# Altium footprint library CrystalOscillator.PcbLib: 9 footprints
Each footprint in its own frame and in the unit in brackets; x right, y up, seen from the top. Pads: shape width x height; smd on the part's side, far side on the other; paste and mask are expansions set on the pad; w line width, h text height; cw(c..) or ccw(c..) is an arc to the next point about the centre after c.
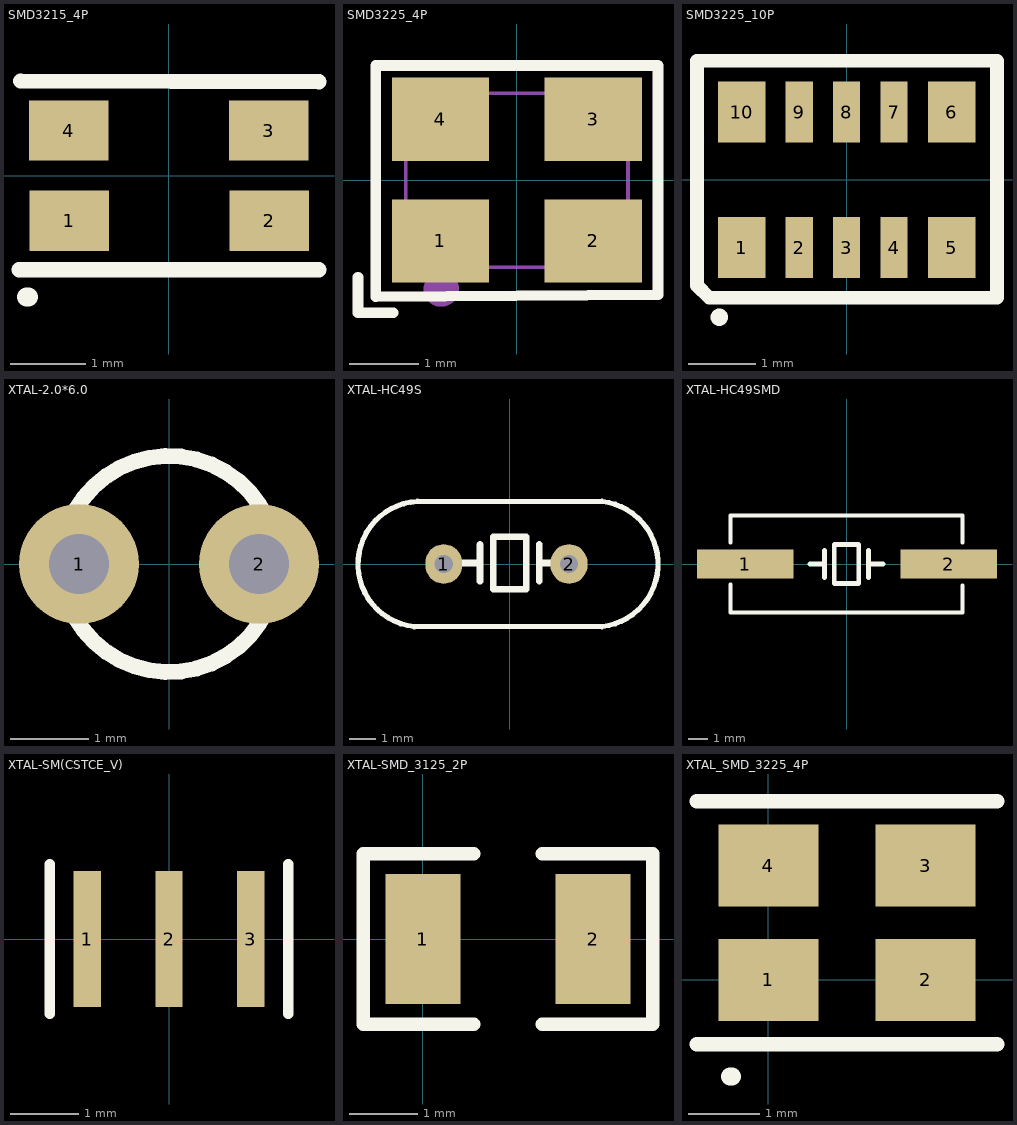
[diagram p0: the footprints below, top view; thin cyan lines are the x and y axes]

## SMD3215_4P [mm]
pads (4):
  rect 1.05x0.8 smd: 1(-1.321,-0.597) 2(1.326,-0.597) 3(1.322,0.597) 4(-1.325,0.597)
Top Overlay:
  lines w0.203: -1.984,-1.247 1.986,-1.247 ; -1.964,1.253 1.986,1.243
  lines w0.254: -1.884,-1.607 -1.86,-1.607

## SMD3225_4P [mm]
pads (4):
  rect 1.4x1.2 smd: 1(-1.1,-0.875) 2(1.1,-0.875) 3(1.1,0.875) 4(-1.1,0.875)
Top Overlay:
  lines w0.152: -2.286,-1.397 -2.286,-1.905 -1.778,-1.905 ; -2.029,-1.679 -2.029,1.651 2.032,1.651 2.032,0 2.032,-1.651 -2.029,-1.679
Mechanical 6:
  circle w0.254: c-1.088,-1.567 r0.127
  region: -1.486,-0.428 -1.45,-0.428 -1.45,-1.004 -1.486,-1.004
  region: -1.522,-0.428 -1.486,-0.428 -1.486,-1.004 -1.522,-1.004
  region: -1.558,-0.428 -1.522,-0.428 -1.522,-1.004 -1.558,-1.004
  region: -1.594,-0.464 -1.558,-0.464 -1.558,-1.004 -1.594,-1.004
  region: -1.63,-0.464 -1.594,-0.464 -1.594,-0.572 -1.63,-0.572
  region: -1.666,-0.5 -1.63,-0.5 -1.63,-0.608 -1.666,-0.608
  region: -1.702,-0.536 -1.666,-0.536 -1.666,-0.608 -1.702,-0.608
  region: -1.738,-0.536 -1.702,-0.536 -1.702,-0.608 -1.738,-0.608
Mechanical 15:
  region: -1.54,-1.25 -1.54,-1.225 -1.575,-1.19 -1.625,-1.19 -1.66,-1.225 -1.66,-1.25 -1.66,-1.275 -1.625,-1.31 -1.575,-1.31 -1.54,-1.275 -1.54,-1.25
  region: 0.6,1.249 1.5,1.249 1.5,0.449 0.6,0.449
  region: -1.5,1.249 -0.6,1.249 -0.6,0.449 -1.5,0.449
  region: -1.5,-0.449 -0.6,-0.449 -0.6,-1.249 -1.5,-1.249
  region: 0.6,-0.449 1.5,-0.449 1.5,-1.249 0.6,-1.249
  lines w0.051: -1.6,-1.25 -1.6,1.25 1.6,1.25 1.6,-1.25 -1.6,-1.25

## SMD3225_10P [mm]
pads (10):
  rect 0.7x0.9 smd: 1(-1.55,-1) 5(1.55,-1) 6(1.55,1) 10(-1.55,1)
  rect 0.4x0.9 smd: 2(-0.7,-1) 3(0,-1) 4(0.7,-1) 7(0.7,1) 8(0,1) 9(-0.7,1)
Top Overlay:
  lines w0.203: -2.21,-1.56 -2.03,-1.74 1.94,-1.74 2.22,-1.74 2.22,1.76 -2.21,1.76 -2.21,-1.56
  lines w0.254: -1.88,-2.03 -1.879,-2.027

## XTAL-2.0*6.0 [mil]
pads (2):
  round 60 hole 30: 1(-45,0) 2(45,0)
Top Overlay:
  circle w7.87: c0.05,0 r54.05
3D body "User Library-KX-26.step": height 76.77, standoff -78.74, extent -45.28,-10.7 45.28,318.04

## XTAL-HC49S [mil]
pads (2):
  oval 56x60 hole 28: 1(-100,0) 2(90,0)
Top Overlay:
  lines w7.87: -144.76,-95 140,-95 ; -140,95 140,95
  lines w8: -144.76,-95 cw(c-134.81,-0.19) -140,95 ; 140,-95 ccw(c129.41,0) 140,95
  lines w10: -74.8,1.57 -45,1.57 ; -45,-26.43 -45,29.57 ; 45,-26.43 45,29.57 ; 45,1.57 74.8,1.57 ; -25,-38.43 -25,41.57 25,41.57 25,-38.43 -25,-38.43
3D body "User Library-HC49S-1.STEP": height 141.73, standoff -118.11, extent -220.08,-88.4 212.21,88.41

## XTAL-HC49SMD [mm]
pads (2):
  rect 5x1.5 smd: 1(-5.232,0) 2(5.283,0)
Top Overlay:
  lines w0.203: -6,-2.5 -6,-1.05 ; -6,1.1 -6,2.5 6,2.5 6,1.6 ; -5.95,-2.5 6,-2.5 6,-1.1 ; 6,1.1 6,1.62
  lines w0.254: -1.9,0 -1.143,0 ; -1.143,-0.711 -1.143,0.711 ; 1.143,-0.711 1.143,0.711 ; 1.143,0 1.9,0 ; -0.635,-1.016 -0.635,1.016 0.635,1.016 0.635,-1.016 -0.635,-1.016
3D body "XTAL-SM.STEP": height 4.05, standoff 0.02, extent -5.75,-2.45 5.75,2.35

## XTAL-SM(CSTCE_V) [mm] "muRata's resonator use in UP-RobotServo"
pads (3):
  rect 0.4x2 smd: 1(-1.2,0) 2(0,0) 3(1.2,0)
Top Overlay:
  lines w0.152: -1.75,-1.1 -1.75,1.1 ; 1.75,-1.1 1.75,1.1
3D body "XTAL-SM(CSTCE_V).STEP": height 0.7, standoff 0, extent -1.6,-0.6 1.6,0.7

## XTAL-SMD_3125_2P [mm]
pads (2):
  rect 1.1x1.9 smd: 1(0,0) 2(2.5,0)
Top Overlay:
  lines w0.2: 0.75,-1.25 -0.875,-1.25 -0.875,1.25 0.75,1.25 ; 1.75,-1.25 3.375,-1.25 3.375,1.25 1.75,1.25

## XTAL_SMD_3225_4P [mm]
pads (4):
  rect 1.4x1.15 smd: 1(0,0) 2(2.2,0) 3(2.2,1.6) 4(0,1.6)
Top Overlay:
  lines w0.203: -1,-0.9 3.2,-0.9 ; -1,2.5 3.2,2.5
  lines w0.254: -0.534,-1.355 -0.509,-1.355
3D body "User Library-3225-1.STEP": height 0.61, standoff 0, extent -0.5,-0.45 2.7,2.05